# Altium schematic symbol library Schlib1.SchLib: 16 symbols
Pins are listed as number, name and electrical type; pins without a type are passive.

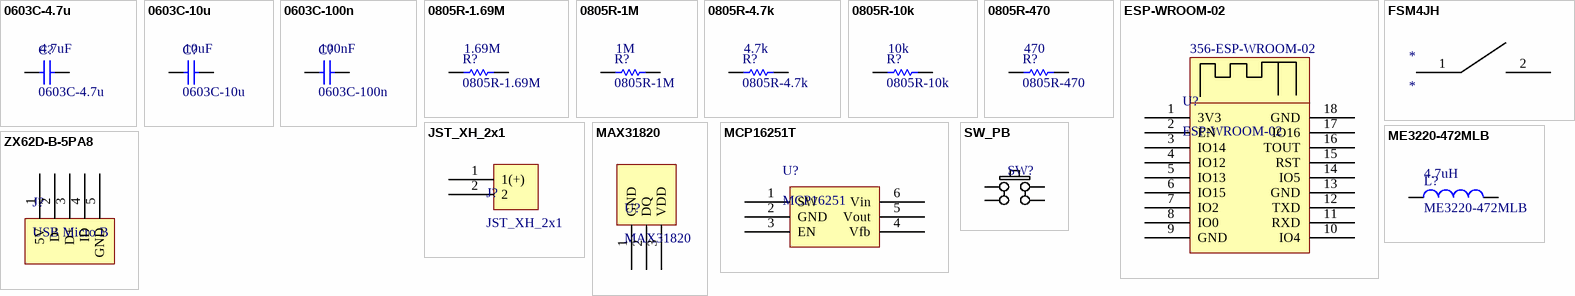
[diagram p0: symbols 0603C-4.7u to ZX62D-B-5PA8]

## 0603C-4.7u
designator C?  value 4.7uF
Published: 8-Jun-2000; LatestRevisionDate: 17-Jul-2002; LatestRevisionNote: Re-released for DXP Platform.; PackageReference: RAD-0.3; Publisher: Altium Limited; PackageDescription: Radial Cap, Thru-Hole; 2 Leads; 0.3 in Pin Spacing; Supplier 1: Digi-Key; Supplier Part Number 1: 311-1521-6-ND; Supplier 2: Mouser; Supplier Part Number 2: 603-CC603KRX5R5BB475
simulation model CAP (Capacitor)
signal-integrity model Cap
footprint CHIP_0603 (Chip Capacitor, 2-Leads, Body 1.60x0.80mm, IPC Medium Density)
pins: 1, 2

## 0603C-10u
designator C?  value 10uF
Published: 8-Jun-2000; LatestRevisionDate: 17-Jul-2002; LatestRevisionNote: Re-released for DXP Platform.; PackageReference: RAD-0.3; Publisher: Altium Limited; PackageDescription: Radial Cap, Thru-Hole; 2 Leads; 0.3 in Pin Spacing; Supplier 1: Digi-Key; Supplier Part Number 1: 587-6012-6-ND; Supplier 2: Mouser; Supplier Part Number 2: 963-JMK107ABJ106KA-T
simulation model CAP (Capacitor)
signal-integrity model Cap
footprint CHIP_0603 (Chip Capacitor, 2-Leads, Body 1.60x0.80mm, IPC Medium Density)
pins: 1, 2

## 0603C-100n
designator C?  value 100nF
Published: 8-Jun-2000; LatestRevisionDate: 17-Jul-2002; LatestRevisionNote: Re-released for DXP Platform.; PackageReference: RAD-0.3; Publisher: Altium Limited; PackageDescription: Radial Cap, Thru-Hole; 2 Leads; 0.3 in Pin Spacing; Supplier 1: Mouser; Supplier Part Number 1: 80-C0603C104K8RAC
simulation model CAP (Capacitor)
signal-integrity model Cap
footprint CHIP_0603 (Chip Capacitor, 2-Leads, Body 1.60x0.80mm, IPC Medium Density)
pins: 1, 2

## 0805R-1.69M
designator R?  value 1.69M
Published: 8-Jun-2000; LatestRevisionDate: 17-Jul-2002; LatestRevisionNote: Re-released for DXP Platform.; PackageReference: AXIAL-0.3; Publisher: Altium Limited; PackageDescription: Axial Device, Thru-Hole; 2 Leads; 0.3 in Pin Spacing; Supplier 1: Mouser; Supplier 2: Digi-Key; Supplier 3: Digi-Key; Supplier Part Number 1: 603-RC0805FR-071M69L; Supplier Part Number 2: 311-1.69MCRCT-ND; Supplier Part Number 3: 311-1.69MCRDKR-ND
simulation model RESISTOR (Resistor)
signal-integrity model Res
footprint Chip_0805 (Chip Capacitor, 2-Leads, Body 2.00x1.25mm, IPC Medium Density)
pins: 1, 2

## 0805R-1M
designator R?  value 1M
Published: 8-Jun-2000; LatestRevisionDate: 17-Jul-2002; LatestRevisionNote: Re-released for DXP Platform.; PackageReference: AXIAL-0.3; Publisher: Altium Limited; PackageDescription: Axial Device, Thru-Hole; 2 Leads; 0.3 in Pin Spacing; Supplier 1: Digi-Key; Supplier 2: Mouser; Supplier 3: Digi-Key; Supplier Part Number 1: 311-1.00MCRCT-ND; Supplier Part Number 2: 603-RC0805FR-071ML; Supplier Part Number 3: 311-1.00MCRDKR-ND
simulation model RESISTOR (Resistor)
signal-integrity model Res
footprint Chip_0805 (Chip Capacitor, 2-Leads, Body 2.00x1.25mm, IPC Medium Density)
pins: 1, 2

## 0805R-4.7k
designator R?  value 4.7k
Published: 8-Jun-2000; LatestRevisionDate: 17-Jul-2002; LatestRevisionNote: Re-released for DXP Platform.; PackageReference: AXIAL-0.3; Publisher: Altium Limited; PackageDescription: Axial Device, Thru-Hole; 2 Leads; 0.3 in Pin Spacing; Supplier 1: Mouser; Supplier 2: Digi-Key; Supplier 3: Newark; Supplier 4: Digi-Key; Supplier 5: Digi-Key; Supplier 6: Newark; Supplier Part Number 1: 603-RC0805FR-074K7L; Supplier Part Number 2: 311-4.70KCRCT-ND; Supplier Part Number 3: 66R3271; Supplier Part Number 4: 311-4.70KCRTR-ND; Supplier Part Number 5: 311-4.70KCRDKR-ND; Supplier Part Number 6: 68R0243
simulation model RESISTOR (Resistor)
signal-integrity model Res
footprint Chip_0805 (Chip Capacitor, 2-Leads, Body 2.00x1.25mm, IPC Medium Density)
pins: 1, 2

## 0805R-10k
designator R?  value 10k
Published: 8-Jun-2000; LatestRevisionDate: 17-Jul-2002; LatestRevisionNote: Re-released for DXP Platform.; PackageReference: AXIAL-0.3; Publisher: Altium Limited; PackageDescription: Axial Device, Thru-Hole; 2 Leads; 0.3 in Pin Spacing; Supplier 1: Mouser; Supplier 2: Digi-Key; Supplier 3: Digi-Key; Supplier 4: Digi-Key; Supplier 5: Newark; Supplier 6: Newark; Supplier Part Number 1: 603-RC0805FR-0710KL; Supplier Part Number 2: 311-10.0KCRTR-ND; Supplier Part Number 3: 311-10.0KCRCT-ND; Supplier Part Number 4: 311-10.0KCRDKR-ND; Supplier Part Number 5: 66R2896; Supplier Part Number 6: 68R0229
simulation model RESISTOR (Resistor)
signal-integrity model Res
footprint Chip_0805 (Chip Capacitor, 2-Leads, Body 2.00x1.25mm, IPC Medium Density)
pins: 1, 2

## 0805R-470
designator R?  value 470
Published: 8-Jun-2000; LatestRevisionDate: 17-Jul-2002; LatestRevisionNote: Re-released for DXP Platform.; PackageReference: AXIAL-0.3; Publisher: Altium Limited; PackageDescription: Axial Device, Thru-Hole; 2 Leads; 0.3 in Pin Spacing; Supplier 1: Mouser; Supplier 2: Digi-Key; Supplier 3: Digi-Key; Supplier 4: Digi-Key; Supplier Part Number 1: 603-RC0805FR-07470RL; Supplier Part Number 2: 311-470CRTR-ND; Supplier Part Number 3: 311-470CRCT-ND; Supplier Part Number 4: 311-470CRDKR-ND
simulation model RESISTOR (Resistor)
signal-integrity model Res
footprint Chip_0805 (Chip Capacitor, 2-Leads, Body 2.00x1.25mm, IPC Medium Density)
pins: 1, 2

## ESP-WROOM-02
designator U?  Supplier Part Number 1: 356-ESP-WROOM-02
Supplier 1: Mouser
footprint ESP-WROOM-02
pins: 1 3V3, 2 EN, 3 IO14, 4 IO12, 5 IO13, 6 IO15, 7 IO2, 8 IO0, 9 GND, 10 IO4, 11 RXD, 12 TXD, 13 GND, 14 IO5, 15 RST, 16 TOUT, 17 IO16, 18 GND

## FSM4JH
designator *
pins: 1, 2

## JST_XH_2x1
designator J?
JST XH Header 2 pin, 1 row, 2.5mm pitch
footprint JST_XH_2x1 (JST HX 2pin, 1row, 2.5mm pitch)
pins: 1 1(+), 2

## MAX31820
designator U?
Supplier 1: Digi-Key; Supplier 2: Mouser; Supplier Part Number 1: MAX31820MCR+-ND; Supplier Part Number 2: 700-MAX31820MCR+
footprint TO-92 (TO, Flat Index; 3 In-Line, Axial Leads; Body Dia. 4.6mm; Leads 0.41 x 0.39 mm (max))
pins: 1 GND, 2 DQ, 3 VDD

## MCP16251T
designator U?, comment MCP16251
Supplier 1: Mouser; Supplier 2: Digi-Key; Supplier 3: Digi-Key; Supplier 4: Digi-Key; Supplier Part Number 1: 579-MCP16251T-I/CH; Supplier Part Number 2: MCP16251T-I/CHTR-ND; Supplier Part Number 3: MCP16251T-I/CHCT-ND; Supplier Part Number 4: MCP16251T-I/CHDKR-ND
footprint SOT23 MCP16251 (SOT23, 6-Leads, Body 2.90x2.70mm, Pitch 0.95mm, IPC Medium Density)
pins: 1 SW, 2 GND, 3 EN, 4 Vfb, 5 Vout, 6 Vin

## ME3220-472MLB
designator L?  value 4.7uH
Code_IEC: 1005; Published: 8-Jun-2000; LatestRevisionDate: 29-May-2009; LatestRevisionNote: IPC-7351 Footprint Added.; PackageReference: 0402-A; Publisher: Altium Limited; PackageDescription: Chip Inductor; Code_JEITA: 0402
simulation model INDUCTOR (Inductor)
signal-integrity model Inductor
footprint ME3220-472MLB
pins: 1, 2

## SW_PB
designator SW?  (value not drawn)
TL3305AF260QG; Supplier 1: Mouser; Supplier Part Number 1: 612-TL3305AF260QG; Supplier 2: Digi-Key; Supplier Part Number 2: EG5353DKR-ND
footprint TL3305AF260QG
pins: 1, 2, 3, 4

## ZX62D-B-5PA8
designator J?, comment USB Micro B
Supplier 1: Mouser; Supplier Part Number 1: 798-ZX62D-B-5PA830
footprint ZX62D-B-5PA8
pins: 1 5V, 2 D-, 3 D+, 4 ID, 5 GND